# EAGLE library part LTM8022 (library linear-technology)
DC/DC CONVERTOR step-down, 1A, 36V DC/DC uModule
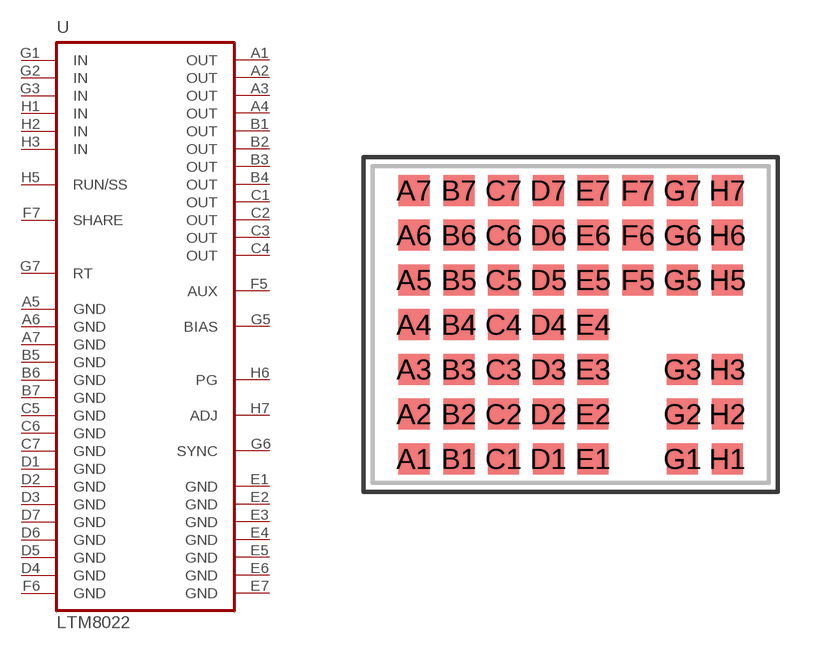
[diagram p41: symbol with the pads of LGA50-SMD; footprint LGA50-SMD]

Designator prefix U

## LTM8022  [LGA50-SMD]
A1  OUT  pas
A2  OUT  pas
A3  OUT  pas
A4  OUT  pas
A5  GND  in
A6  GND  in
A7  GND  in
B1  OUT  pas
B2  OUT  pas
B3  OUT  pas
B4  OUT  pas
B5  GND  in
B6  GND  in
B7  GND  in
C1  OUT  pas
C2  OUT  pas
C3  OUT  pas
C4  OUT  pas
C5  GND  in
C6  GND  in
C7  GND  in
D1  GND  in
D2  GND  in
D3  GND  in
D4  GND  in
D5  GND  in
D6  GND  in
D7  GND  in
E1  GND  in
E2  GND  in
E3  GND  in
E4  GND  in
E5  GND  in
E6  GND  in
E7  GND  in
F5  AUX  pas
F6  GND  in
F7  SHARE  pas
G1  IN  in
G2  IN  in
G3  IN  in
G5  BIAS  in
G6  SYNC  in
G7  RT  in
H1  IN  in
H2  IN  in
H3  IN  in
H5  RUN/SS  in
H6  PG  oc
H7  ADJ  in

## Footprint LGA50-SMD (pad centres in mm)
LGA 50 Package 11.25mm × 9.00mm × 2.82mm Solder Mask Defined Pads (0.63 mm opening)
smd 0.88 x 0.88: A1 -4.445,-3.81; A2 -4.445,-2.54; A3 -4.445,-1.27; A4 -4.445,0; A5 -4.445,1.27; A6 -4.445,2.54; A7 -4.445,3.81; B1 -3.175,-3.81; B2 -3.175,-2.54; B3 -3.175,-1.27; B4 -3.175,0; B5 -3.175,1.27; B6 -3.175,2.54; B7 -3.175,3.81; C1 -1.905,-3.81; C2 -1.905,-2.54; C3 -1.905,-1.27; C4 -1.905,0; C5 -1.905,1.27; C6 -1.905,2.54; C7 -1.905,3.81; D1 -0.635,-3.81; D2 -0.635,-2.54; D3 -0.635,-1.27; D4 -0.635,0; D5 -0.635,1.27; D6 -0.635,2.54; D7 -0.635,3.81; E1 0.635,-3.81; E2 0.635,-2.54; E3 0.635,-1.27; E4 0.635,0; E5 0.635,1.27; E6 0.635,2.54; E7 0.635,3.81; F5 1.905,1.27; F6 1.905,2.54; F7 1.905,3.81; G1 3.175,-3.81; G2 3.175,-2.54; G3 3.175,-1.27; G5 3.175,1.27; G6 3.175,2.54; G7 3.175,3.81; H1 4.445,-3.81; H2 4.445,-2.54; H3 4.445,-1.27; H5 4.445,1.27; H6 4.445,2.54; H7 4.445,3.81